# Altium schematic symbol library TE Connectivity 292304-1 USB-B.Schlib: 1 symbol
Pins are listed as number, name and electrical type; pins without a type are passive.

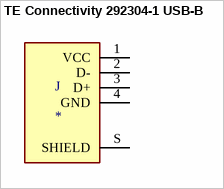
[diagram p0: symbol TE Connectivity 292304-1 USB-B]

## TE Connectivity 292304-1 USB-B
designator J
USB - Type B Female USB 2 4 Through Hole USB Connectors RoHS; ComponentLink1Description: LCSC - TE Connectivity 292304-1; ComponentLink1URL: https://lcsc.com/product-detail/USB-Connectors_TE-Connectivity_292304-1_USB2-0Connector-Bhead_C86462.html; LCSC Part #: C86462
footprint USB-B TE Connectivity 292304-1
pins: 1 VCC, 2 D-, 3 D+, 4 GND, S SHIELD